# EAGLE library part ADF4351BCPZ-RL7 (library My_Library_RADAR)
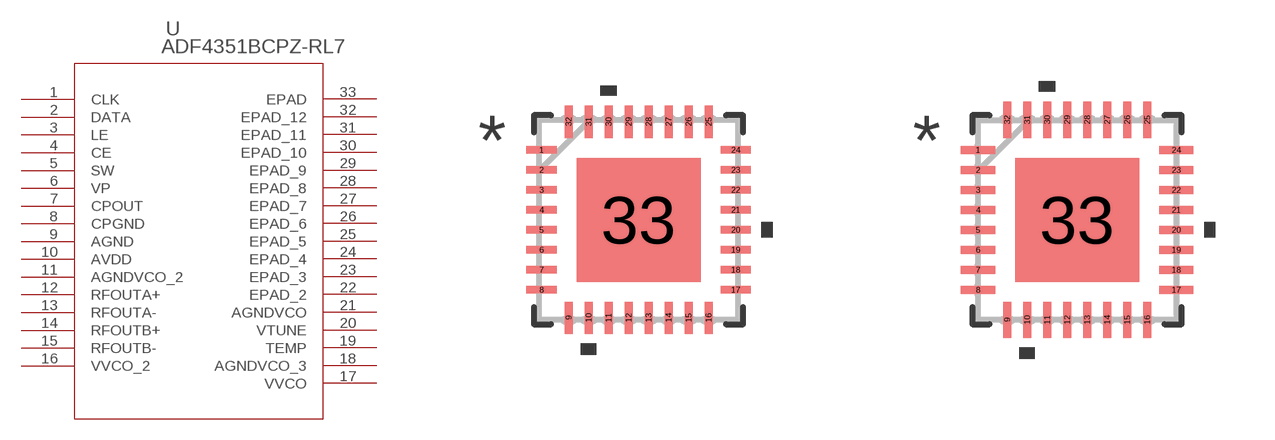
[diagram p11: symbol with the pads of CP_32_7_ADI; footprints CP_32_7_ADI, CP_32_7_ADI-M]

Designator prefix U

## ADF4351BCPZ-RL7 (COPYRIGHT: Copyright (C) 2025 Ultra Librarian. All rights reserved.; MANUFACTURER_PART_NUMBER: ADF4351BCPZ-RL7; MFR_NAME: Analog Devices Inc)  [CP_32_7_ADI]
1  CLK  in
2  DATA  in
3  LE  pas
4  CE  pas
5  SW  pas
6  VP  pwr
7  CPOUT  out
8  CPGND  pas
9  AGND  pas
10  AVDD  pwr
11  AGNDVCO_2  pas
12  RFOUTA+  out
13  RFOUTA-  out
14  RFOUTB+  out
15  RFOUTB-  out
16  VVCO_2  pwr
17  VVCO  pwr
18  AGNDVCO_3  pas
19  TEMP  out
20  VTUNE  in
21  AGNDVCO  pas
22  EPAD_2  pas
23  EPAD_3  pas
24  EPAD_4  pas
25  EPAD_5  pas
26  EPAD_6  pas
27  EPAD_7  pas
28  EPAD_8  pas
29  EPAD_9  pas
30  EPAD_10  pas
31  EPAD_11  pas
32  EPAD_12  pas
33  EPAD  pas

## ADF4351BCPZ-RL7CP_32_7_ADI-M (COPYRIGHT: Copyright (C) 2025 Ultra Librarian. All rights reserved.; MANUFACTURER_PART_NUMBER: ADF4351BCPZ-RL7; MFR_NAME: Analog Devices Inc)  [CP_32_7_ADI-M]
Pads as for CP_32_7_ADI

## ADF4351BCPZ-RL7CP_32_7_ADI-L (COPYRIGHT: Copyright (C) 2025 Ultra Librarian. All rights reserved.; MANUFACTURER_PART_NUMBER: ADF4351BCPZ-RL7; MFR_NAME: Analog Devices Inc)  [CP_32_7_ADI-L]
Pads as for CP_32_7_ADI

## Footprint CP_32_7_ADI (pad centres in mm)
smd 0.755 x 0.199: 1 -2.427,1.75; 2 -2.427,1.25; 3 -2.427,0.75; 4 -2.427,0.25; 5 -2.427,-0.25; 6 -2.427,-0.75; 7 -2.427,-1.25; 8 -2.427,-1.75; 17 2.427,-1.75; 18 2.427,-1.25; 19 2.427,-0.75; 20 2.427,-0.25; 21 2.427,0.25; 22 2.427,0.75; 23 2.427,1.25; 24 2.427,1.75
smd 0.199 x 0.805: 9 -1.75,-2.452; 10 -1.25,-2.452; 11 -0.75,-2.452; 12 -0.25,-2.452; 13 0.25,-2.452; 14 0.75,-2.452; 15 1.25,-2.452; 16 1.75,-2.452; 25 1.75,2.452; 26 1.25,2.452; 27 0.75,2.452; 28 0.25,2.452; 29 -0.25,2.452; 30 -0.75,2.452; 31 -1.25,2.452; 32 -1.75,2.452
smd 3.1 x 3.1: 33 0,0

## Footprint CP_32_7_ADI-M (pad centres in mm)
smd 0.856 x 0.199: 1 -2.478,1.75; 2 -2.478,1.25; 3 -2.478,0.75; 4 -2.478,0.25; 5 -2.478,-0.25; 6 -2.478,-0.75; 7 -2.478,-1.25; 8 -2.478,-1.75; 17 2.478,-1.75; 18 2.478,-1.25; 19 2.478,-0.75; 20 2.478,-0.25; 21 2.478,0.25; 22 2.478,0.75; 23 2.478,1.25; 24 2.478,1.75
smd 0.199 x 0.906: 9 -1.75,-2.503; 10 -1.25,-2.503; 11 -0.75,-2.503; 12 -0.25,-2.503; 13 0.25,-2.503; 14 0.75,-2.503; 15 1.25,-2.503; 16 1.75,-2.503; 25 1.75,2.503; 26 1.25,2.503; 27 0.75,2.503; 28 0.25,2.503; 29 -0.25,2.503; 30 -0.75,2.503; 31 -1.25,2.503; 32 -1.75,2.503
smd 3.1 x 3.1: 33 0,0

## Footprint CP_32_7_ADI-L (pad centres in mm)
smd 0.653 x 0.199: 1 -2.377,1.75; 2 -2.377,1.25; 3 -2.377,0.75; 4 -2.377,0.25; 5 -2.377,-0.25; 6 -2.377,-0.75; 7 -2.377,-1.25; 8 -2.377,-1.75; 17 2.377,-1.75; 18 2.377,-1.25; 19 2.377,-0.75; 20 2.377,-0.25; 21 2.377,0.25; 22 2.377,0.75; 23 2.377,1.25; 24 2.377,1.75
smd 0.199 x 0.703: 9 -1.75,-2.402; 10 -1.25,-2.402; 11 -0.75,-2.402; 12 -0.25,-2.402; 13 0.25,-2.402; 14 0.75,-2.402; 15 1.25,-2.402; 16 1.75,-2.402; 25 1.75,2.402; 26 1.25,2.402; 27 0.75,2.402; 28 0.25,2.402; 29 -0.25,2.402; 30 -0.75,2.402; 31 -1.25,2.402; 32 -1.75,2.402
smd 3.1 x 3.1: 33 0,0